# EAGLE library part HR911105A (library basicBoard)
Low cost RJ45 connector with integrated magnetics and LEDs. www.hasseb.fi
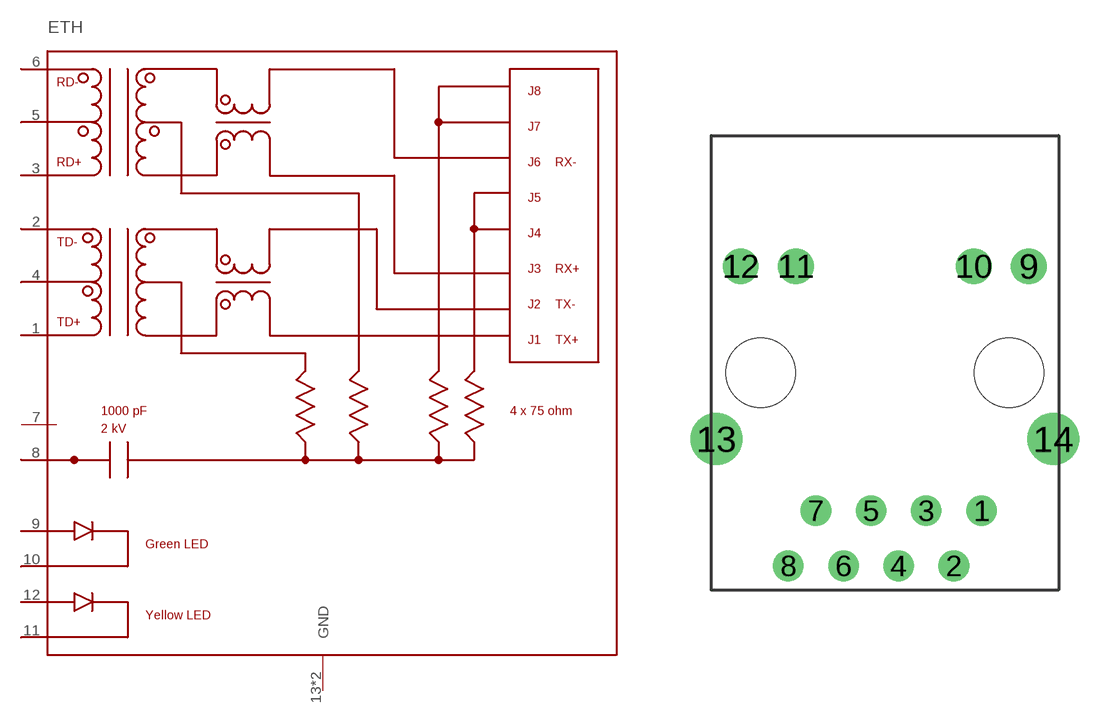
[diagram p3: symbol with the pads of RJ45; footprint RJ45]

Designator prefix ETH

## HR911105A  [RJ45]
1  P$1
2  P$2
3  P$3
4  P$4
5  P$5
6  P$6
7  P$7
8  P$8
9  P$9
10  P$10
11  P$11
12  P$12
13  GND
14  GND

## Footprint RJ45 (pad centres in mm)
Low cost RJ45 connector with integrated magnetics and LEDs. www.hasseb.fi
drill 0.9: 1 4.45,-6.35; 2 3.18,-8.89; 3 1.91,-6.35; 4 0.64,-8.89; 5 -0.63,-6.35; 6 -1.9,-8.89; 7 -3.17,-6.35; 8 -4.44,-8.89
drill 1.1: 9 6.63,4.9; 10 4.09,4.9; 11 -4.09,4.9; 12 -6.63,4.9
drill 1.6 pad 2.184: 13 -7.75,-3.05; 14 7.75,-3.05
hole 3.2 at 5.715,0
hole 3.2 at -5.715,0